# Altium footprint library PcbLib1.PcbLib: 8 footprints
Each footprint in its own frame and in the unit in brackets; x right, y up, seen from the top. Pads: shape width x height; smd on the part's side, far side on the other; paste and mask are expansions set on the pad; w line width, h text height; cw(c..) or ccw(c..) is an arc to the next point about the centre after c.
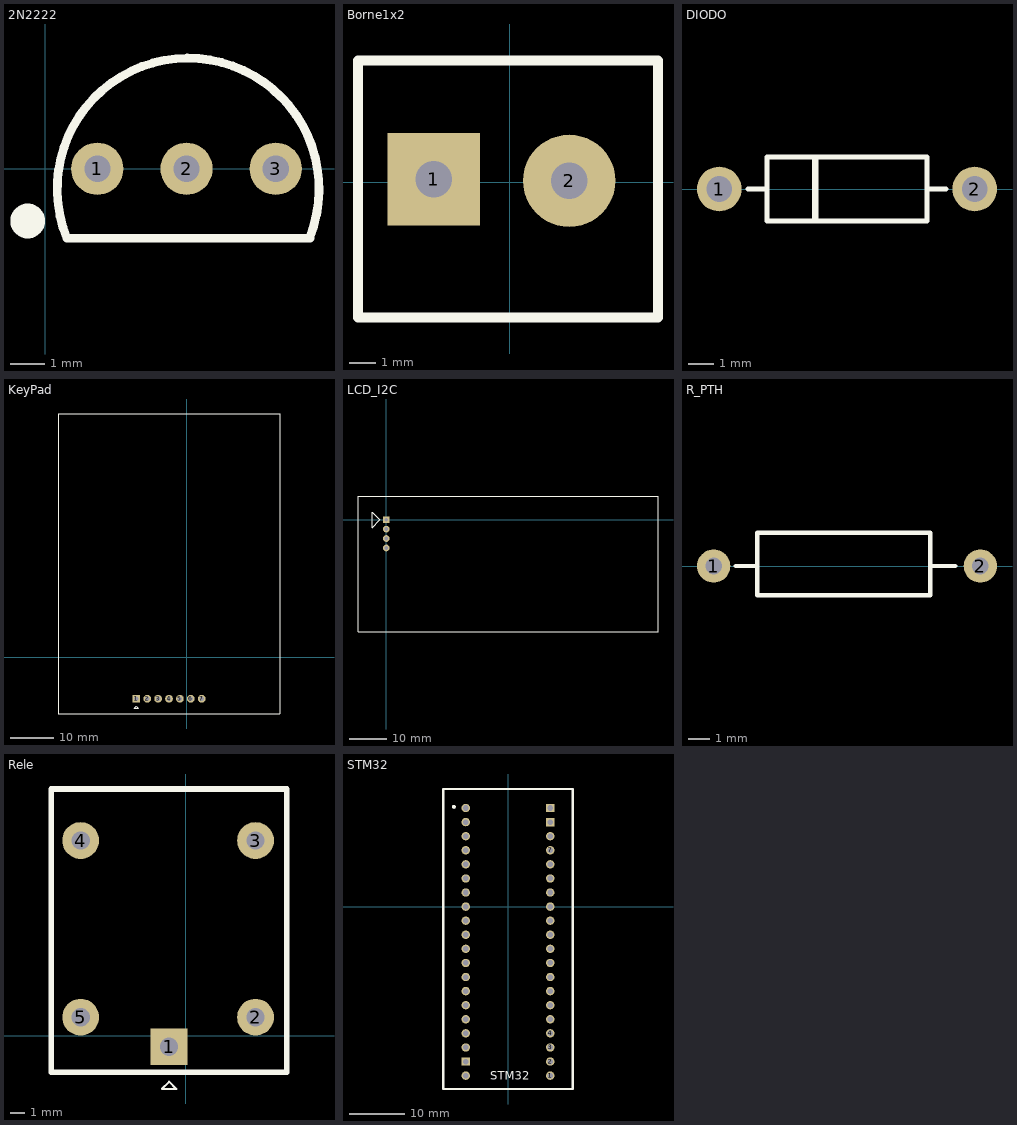
[diagram p0: the footprints below, top view; thin cyan lines are the x and y axes]

## 2N2222 [mil]
pads (3):
  round 60 hole 30: 1(60,0) 2(162.5,0) 3(265,0)
Top Overlay:
  circle w20: c-20,-60 r10
  lines w10: 304.3,-80 25,-80 cw(c164.3,-23.25) 304.3,-78.25
3D body "2N2222.STEP": height 470.08, standoff -200, extent 54.25,-65.59 270,60

## Borne1x2 [mil]
pads (2):
  rect 140x140 hole 55.12: 1(-115,5)
  round 140 hole 55.12: 2(90.28,2.32)
Top Overlay:
  lines w15: -230,-205 225,-205 225,185 -230,185 -230,-205
3D body "1935161.step": height 449.32, standoff -137.29, extent -208.43,-190.28 201.02,164.06

## DIODO [mil]
pads (2):
  round 70 hole 40: 1(80,0) 2(480,0)
Top Overlay:
  lines w7.87: 125,0 155,0 ; 406.38,0 435,0 ; 460,0 505,0 ; 155,0 155,50 405,50 405,-50 155,-50 155,0
  lines w10: 230,-45 230,45
3D body "Diodo 1N4007.STEP": height 123.15, standoff -63.04, extent 64.55,-53.19 499.98,53.19

## KeyPad [mm]
pads (7):
  rect 1.8x1.8 hole 1 mask+0.2: 1(-11.811,-9.652)
  round 1.8 hole 1 mask+0.2: 2(-9.271,-9.652) 3(-6.731,-9.652) 4(-4.191,-9.652) 5(-1.651,-9.652) 6(0.889,-9.652) 7(3.429,-9.652)
Top Overlay:
  lines w0.15: -12.337,-11.902 -11.335,-11.902 -11.836,-11.401 -12.337,-11.902
  lines w0.25: -29.972,-13.208 -29.972,56.769 21.59,56.769 21.59,-13.208 -29.972,-13.208
3D body "PinHeader_1x7_Male_RA_2.54mm.step": height 7.62, standoff -5.18, extent -13.081,-11.009 4.699,-8.509
3D body "KeyPad_3x4_w_pcb.step": height 14.9, standoff 4.62, extent -29.691,-12.954 21.309,56.546

## LCD_I2C [mm]
pads (4):
  rect 1.8x1.8 hole 1 mask+0.2: 1(0,0)
  round 1.8 hole 1 mask+0.2: 2(0,-2.54) 3(0,-5.08) 4(0,-7.62)
Top Overlay:
  lines w0.15: -3.806,-2.155 -3.806,2.022 -1.718,-0.067 -3.806,-2.155
  lines w0.25: -7.62,-30.226 -7.62,6.35 73.152,6.35 73.152,-30.226 -7.62,-30.226
3D body "User Library-LCD1602 with I2C.STEP": height 21.27, standoff -5.33, extent -7.239,-29.938 72.761,6.062

## R_PTH [mil]
pads (2):
  round 60 hole 30: 1(70,0) 2(550,0)
Top Overlay:
  lines w7.87: 110,0 148.62,0 ; 460,0 505,0 ; 148.62,0 148.62,60 460,60 460,-52.59 148.62,-52.59 148.62,0
3D body "R10k.step": height 102.59, standoff -110, extent 57.5,-47.8 562.5,55

## Rele [mil]
pads (5):
  rect 100x100 hole 50: 1(-45,-30)
  round 100 hole 50: 2(190,50) 3(190,530) 4(-285,530) 5(-285,50)
Top Overlay:
  lines w5.91: -64.45,-145 -44.72,-125.28 -25,-145 -64.45,-145
  lines w15: -365,-100 275,-100 275,670 -365,670 -365,-100
3D body "J107F1CS1212VDC.36.STEP": height 601.97, standoff -145.67, extent -350.71,-89.02 260.71,659.02

## STM32 [mm]
pads (40):
  round 1.508 hole 1: 1(7.62,-30.48) 2(7.62,-27.94) 3(7.62,-25.4) 3V3(-7.62,-30.48) 3V3(7.62,12.7) 4(7.62,-22.86) 5V(-7.62,-25.4) 7(7.62,10.16) 10(7.62,-20.32) 11(7.62,-17.78) 12(7.62,-15.24) 13(7.62,-12.7) 14(7.62,-10.16) 15(7.62,-7.62) 16(7.62,-5.08) 17(7.62,-2.54) 18(7.62,0) 19(7.62,2.54) 21(7.62,5.08) 22(7.62,7.62) 25(-7.62,17.78) 26(-7.62,15.24) 27(-7.62,12.7) 28(-7.62,10.16) 29(-7.62,7.62) 30(-7.62,5.08) 31(-7.62,2.54) 32(-7.62,0) 33(-7.62,-2.54) 38(-7.62,-5.08) 39(-7.62,-7.62) 40(-7.62,-10.16) 41(-7.62,-12.7) 42(-7.62,-15.24) 43(-7.62,-17.78) 45(-7.62,-20.32) 46(-7.62,-22.86)
  rect 1.508x1.508 hole 1: GND(-7.62,-27.94) GND(7.62,15.24) GND(7.62,17.78)
Top Overlay:
  circle w0.508: c-9.75,18 r0.1
  lines w0.381: -11.684,-32.893 11.684,-32.893 11.684,21.209 -11.684,21.209 -11.684,-32.893
  text "STM32" at -3.175,-31.242 h1.52
3D body "Blue Pill STM32.step": height 13.57, standoff -6.52, extent -11.43,-37.465 11.43,20.956